# Altium footprint library LM555PCBLIB.PcbLib: 2 footprints
Each footprint in its own frame and in the unit in brackets; x right, y up, seen from the top. Pads: shape width x height; smd on the part's side, far side on the other; paste and mask are expansions set on the pad; w line width, h text height; cw(c..) or ccw(c..) is an arc to the next point about the centre after c.
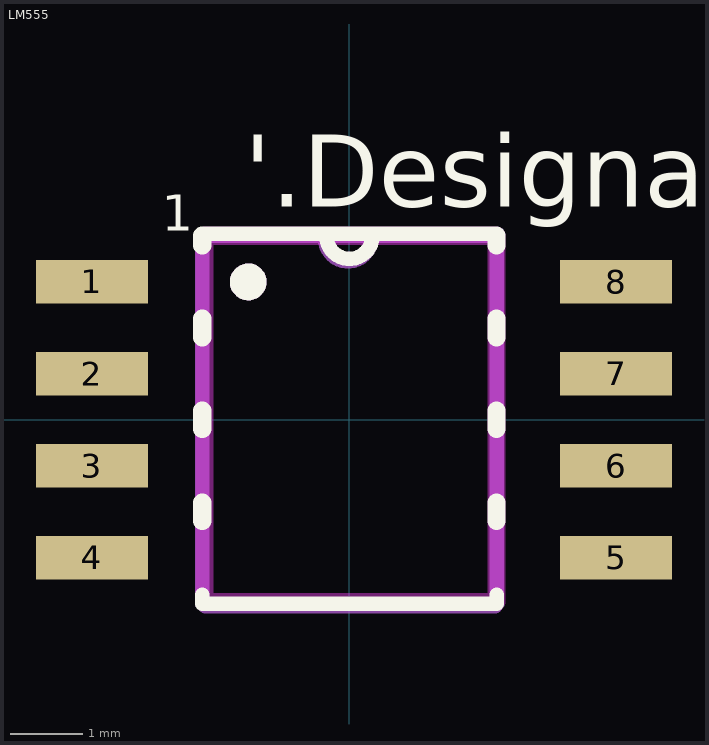
[diagram p0: the footprints below, top view; thin cyan lines are the x and y axes]

## LM555 [mm]
pads (8):
  rect 1.55x0.6 smd paste+0.07: 1(-3.556,1.905) 2(-3.556,0.635) 3(-3.556,-0.635) 4(-3.556,-1.905) 5(3.683,-1.905) 6(3.683,-0.635) 7(3.683,0.635) 8(3.683,1.905)
Top Overlay:
  circle w0.254: c-1.397,1.905 r0.127
  lines w0.2: -2.032,-2.413 -2.032,-2.54 2.032,-2.54 2.032,-2.413 ; -2.001,2.573 2.032,2.573 ; -0.318,2.54 ccw(c0,2.54) 0.318,2.54
  lines w0.254: -2.032,-1.397 -2.032,-1.143 ; -2.032,-0.127 -2.032,0.127 ; -2.032,1.143 -2.032,1.397 ; -2.032,2.413 -2.032,2.54 ; 2.032,-1.397 2.032,-1.143 ; 2.032,-0.127 2.032,0.127 ; 2.032,1.143 2.032,1.397 ; 2.032,2.413 2.032,2.54
  text "1" at -2.594,2.613 h0.5
  text "'.Designator'" at -1.451,2.946 h1
Keep-Out Layer:
  lines w0.254: -2.002,-2.51 -2.007,-2.515 2.007,-2.515 ; -2.002,-2.503 -2.002,2.54 2.032,2.54 2.032,-2.515
Mechanical 1:
  circle w0.254: c-1.397,1.905 r0.127
  lines w0.2: -2.032,2.54 -2.032,-2.533 -1.992,-2.573 2.013,-2.573 ; -2.02,2.54 2.013,2.54 ; -0.337,2.507 ccw(c-0.019,2.507) 0.298,2.507 ; 2.032,-2.536 2.032,2.54
  text "'.Designator'" at -1.451,2.946 h1
  text "1" at -2.594,2.613 h0.5
3D body "soic8.step": height 2.35, standoff 0.03, extent -4.196,-2.69 4.196,2.69

## PCBComponent_1 [mm]